# Altium schematic symbol library Displays.SchLib: 5 symbols
Pins are listed as number, name and electrical type; pins without a type are passive.

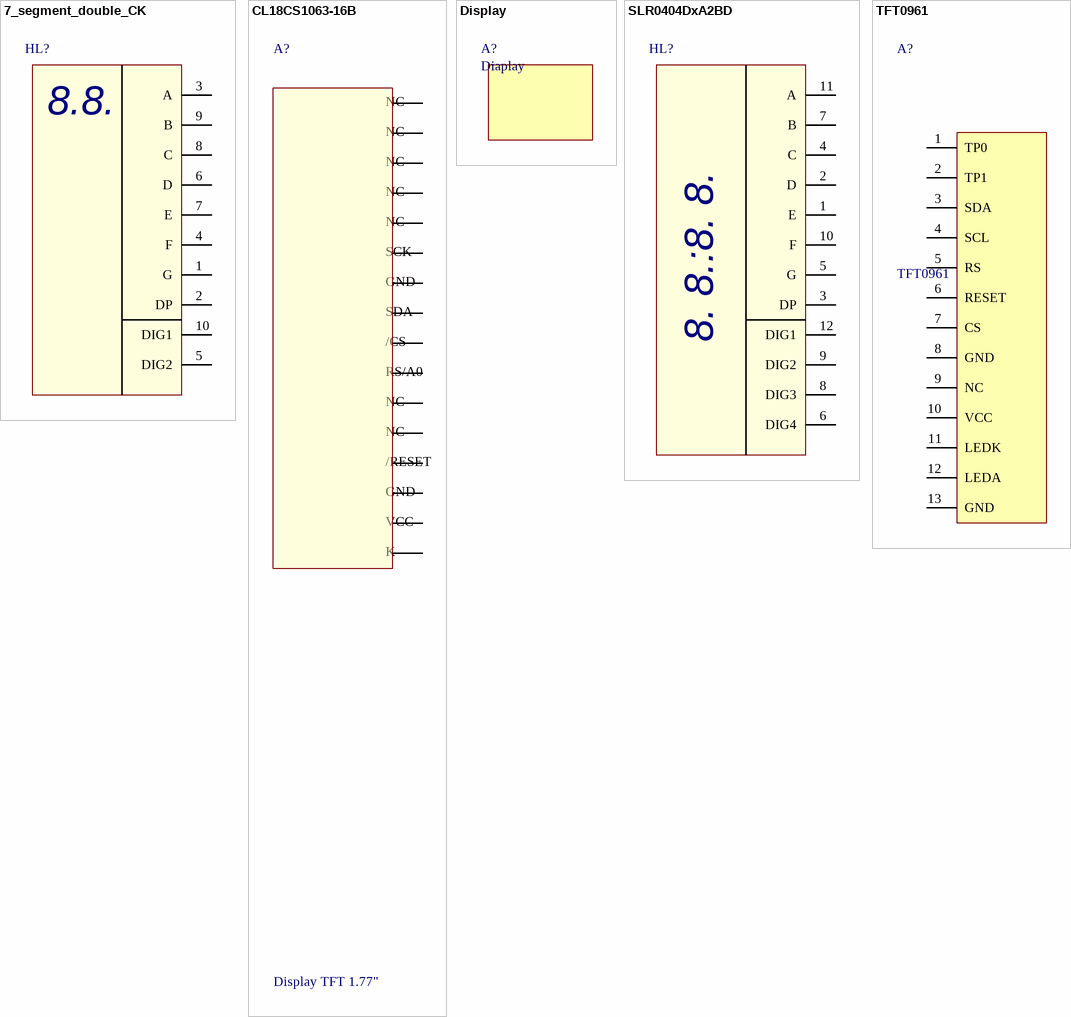
[diagram p0: symbols 7_segment_double_CK to TFT0961]

## 7_segment_double_CK
designator HL?
pins: 1 G, 2 DP, 3 A, 4 F, 5 DIG2, 6 D, 7 E, 8 C, 9 B, 10 DIG1
text: 8.8.

## CL18CS1063-16B
designator A?, comment Display TFT 1.77"
DISPLAY, TFT 1.77" with 16-pin 0.5mm connector
text: NC; SCK; GND; SDA; /CS; RS/A0; /RESET; VCC; K

## Display
designator A?, comment Diaplay

## SLR0404DxA2BD
designator HL?
LED Display, 4 0.4''(10.16mm) Anode(Positive electrode)
pins: 1 E, 2 D, 3 DP, 4 C, 5 G, 6 DIG4, 7 B, 8 DIG3, 9 DIG2, 10 F, 11 A, 12 DIG1
text: 8. 8.:8. 8.

## TFT0961
designator A?
0.96 TFT IPS
pins: 1 TP0, 2 TP1, 3 SDA, 4 SCL, 5 RS, 6 RESET, 7 CS, 8 GND, 9 NC, 10 VCC, 11 LEDK, 12 LEDA, 13 GND